# Altium schematic symbol library IC_Peripheral.SchLib: 24 symbols
Pins are listed as number, name and electrical type; pins without a type are passive.

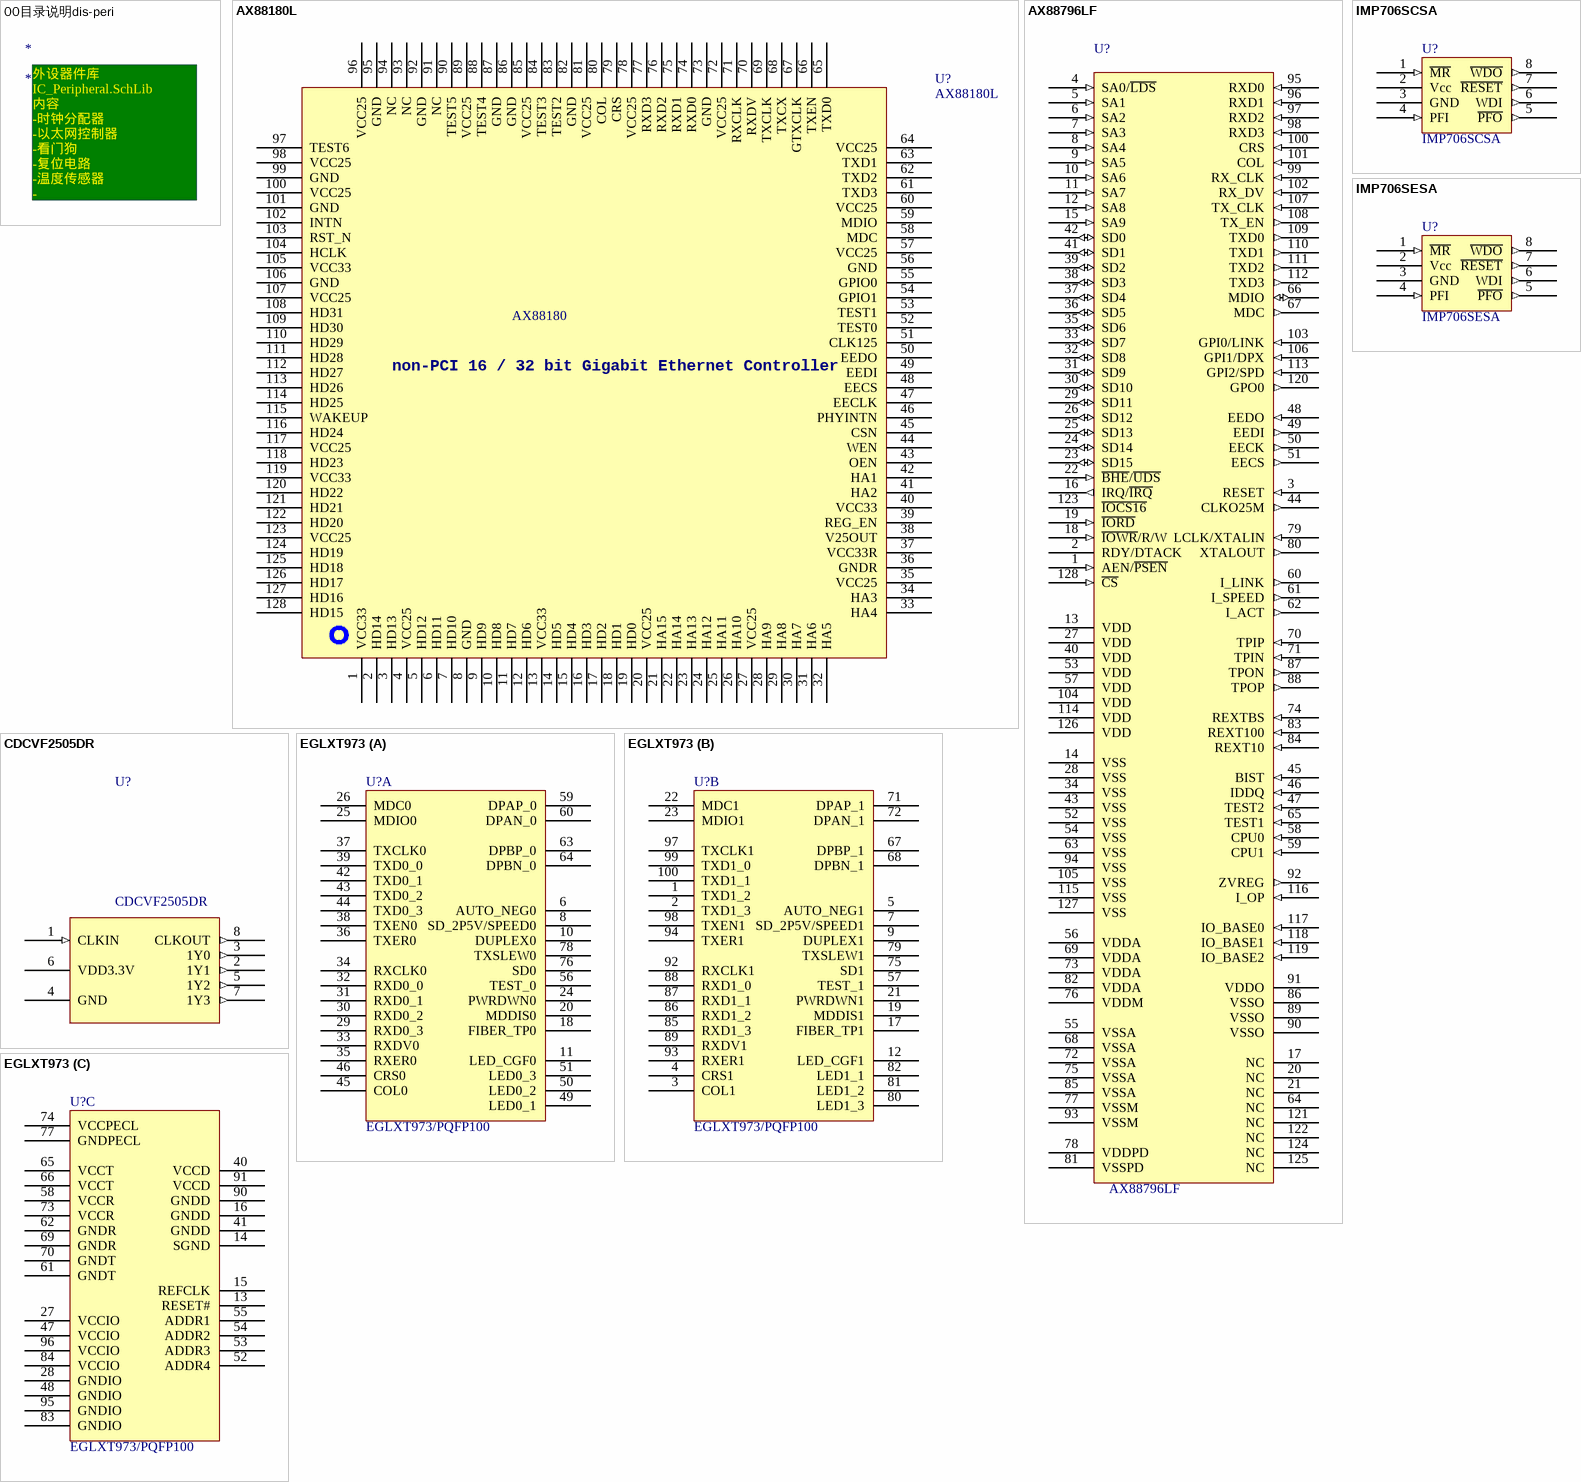
[diagram p0: symbols 00目录说明dis-peri to IMP706SESA]

## 00目录说明dis-peri
designator *
text: 外设器件库 IC_Peripheral.SchLib / 内容 / -时钟分配器 / -以太网控制器 / -看门狗 / -复位电路 / -温度传感器 / - /

## AX88180L
designator U?
High-Performance Non-PCI    32-bit 10/100/1000M Gigabit Ethernet Controller; Manufacturer: ASIX; Name: 千兆以太网控制器仅MAC部分; 物料型号说明: 千兆MAC; Price_Date: 2011-07; Price: 35; 物料替代型号: n/a; Ordering NO.: AX88180L
footprint LQFP128/0.4_14*14 (Shrink QFP, 128-Leads, Body 14x14mm, Pitch 0.4mm, IPC High Density)
pins: 1 VCC33, 2 HD14, 3 HD13, 4 VCC25, 5 HD12, 6 HD11, 7 HD10, 8 GND, 9 HD9, 10 HD8, 11 HD7, 12 HD6, 13 VCC33, 14 HD5, 15 HD4, 16 HD3, 17 HD2, 18 HD1, 19 HD0, 20 VCC25, 21 HA15, 22 HA14, 23 HA13, 24 HA12, 25 HA11, 26 HA10, 27 VCC25, 28 HA9, 29 HA8, 30 HA7, 31 HA6, 32 HA5, 33 HA4, 34 HA3, 35 VCC25, 36 GNDR, 37 VCC33R, 38 V25OUT, 39 REG_EN, 40 VCC33, 41 HA2, 42 HA1, 43 OEN, 44 WEN, 45 CSN, 46 PHYINTN, 47 EECLK, 48 EECS, 49 EEDI, 50 EEDO, 51 CLK125, 52 TEST0, 53 TEST1, 54 GPIO1, 55 GPIO0, 56 GND, 57 VCC25, 58 MDC, 59 MDIO, 60 VCC25, 61 TXD3, 62 TXD2, 63 TXD1, 64 VCC25, 65 TXD0, 66 TXEN, 67 GTXCLK, 68 TXCX, 69 TXCLK, 70 RXDV, 71 RXCLK, 72 VCC25, 73 GND, 74 RXD0, 75 RXD1, 76 RXD2, 77 RXD3, 78 VCC25, 79 CRS, 80 COL, 81 VCC25, 82 GND, 83 TEST2, 84 TEST3, 85 VCC25, 86 GND, 87 GND, 88 TEST4, 89 VCC25, 90 TEST5, 91 NC, 92 GND, 93 NC, 94 NC, 95 GND, 96 VCC25, 97 TEST6, 98 VCC25, 99 GND, 100 VCC25, 101 GND, 102 INTN, 103 RST_N, 104 HCLK, 105 VCC33, 106 GND, 107 VCC25, 108 HD31, 109 HD30, 110 HD29, 111 HD28, 112 HD27, 113 HD26, 114 HD25, 115 WAKEUP, 116 HD24, 117 VCC25, 118 HD23, 119 VCC33, 120 HD22, 121 HD21, 122 HD20, 123 VCC25, 124 HD19, 125 HD18, 126 HD17, 127 HD16, 128 HD15
text: AX88180; non-PCI 16 / 32 bit / Gigabit Ethernet Controller

## AX88796LF
designator U?
3-in-1 Local BUus Fast Ethernet Controller with Embedded SRAM; Manufacturer: ASIX; Name: 以太网控制器; Ordering NO.: AX88796LF
footprint LQFP128/0.5_20*14
pins: 1 AEN/~{PSEN} (in), 2 RDY/DTACK, 3 RESET (in), 4 SA0/~{LDS} (in), 5 SA1 (in), 6 SA2 (in), 7 SA3 (in), 8 SA4 (in), 9 SA5 (in), 10 SA6 (in), 11 SA7 (in), 12 SA8 (in), 13 VDD (power), 14 VSS (power), 15 SA9 (in), 16 IRQ/~{IRQ} (out), 17 NC, 18 ~{IOWR}/R/W (in), 19 ~{IORD} (in), 20 NC, 21 NC, 22 ~{BHE}/~{UDS} (in), 23 SD15 (io), 24 SD14 (io), 25 SD13 (io), 26 SD12 (io), 27 VDD (power), 28 VSS (power), 29 SD11 (io), 30 SD10 (io), 31 SD9 (io), 32 SD8 (io), 33 SD7 (io), 34 VSS (power), 35 SD6 (io), 36 SD5 (io), 37 SD4 (io), 38 SD3 (io), 39 SD2 (io), 40 VDD (power), 41 SD1 (io), 42 SD0 (io), 43 VSS (power), 44 CLKO25M (out), 45 BIST (in), 46 IDDQ (in), 47 TEST2 (in), 48 EEDO (in), 49 EEDI (out), 50 EECK (out), 51 EECS (out), 52 VSS (power), 53 VDD (power), 54 VSS (power), 55 VSSA (power), 56 VDDA (power), 57 VDD (power), 58 CPU0 (in), 59 CPU1 (in), 60 I_LINK (out), 61 I_SPEED (out), 62 I_ACT (out), 63 VSS (power), 64 NC, 65 TEST1 (in), 66 MDIO (io), 67 MDC (out), 68 VSSA (power), 69 VDDA (power), 70 TPIP (in), 71 TPIN (in), 72 VSSA (power), 73 VDDA (power), 74 REXTBS (in), 75 VSSA (power), 76 VDDM (power), 77 VSSM (power), 78 VDDPD (power), 79 LCLK/XTALIN (in), 80 XTALOUT (out), 81 VSSPD (power), 82 VDDA (power), 83 REXT100 (in), 84 REXT10 (in), 85 VSSA (power), 86 VSSO (power), 87 TPON (out), 88 TPOP (out), 89 VSSO (power), 90 VSSO (power), 91 VDDO (power), 92 ZVREG (out), 93 VSSM (power), 94 VSS (power), 95 RXD0 (in), 96 RXD1 (in), 97 RXD2 (in), 98 RXD3 (in), 99 RX_CLK (in), 100 CRS (in), 101 COL (in), 102 RX_DV (in), 103 GPI0/LINK (in), 104 VDD (power), 105 VSS (power), 106 GPI1/DPX (in), 107 TX_CLK (in), 108 TX_EN (out), 109 TXD0 (out), 110 TXD1 (out), 111 TXD2 (out), 112 TXD3 (out), 113 GPI2/SPD (in), 114 VDD (power), 115 VSS (power), 116 I_OP (in), 117 IO_BASE0 (in), 118 IO_BASE1 (in), 119 IO_BASE2 (in), 120 GPO0 (out), 121 NC, 122 NC, 123 ~{IOCS16}, 124 NC, 125 NC, 126 VDD (power), 127 VSS (power), 128 ~{CS} (in)

## CDCVF2505DR
designator U?
3.3V CLODK PHASE-LOCK LOOP CLOCK DRIVER; Manufacturer: TI; Name: 锁相环时钟驱动器; 物料型号说明: SO-8封装; Price: 25; 物料替代型号: n/a; Ordering NO.: CDCVF2505DR
footprint SO8/1.27_4.9*3.9 (SOIC, 8-Leads, Body 4.9x3.9mm, Pitch 1.27mm,)
pins: 1 CLKIN (in), 2 1Y1 (out), 3 1Y0 (out), 4 GND (power), 5 1Y2 (out), 6 VDD3.3V (power), 7 1Y3 (out), 8 CLKOUT (out)

## EGLXT973
designator U?, comment EGLXT973/PQFP100
双100TX/FX PHY; Manufacturer: Cortina systems; Name: 双100TX/FX以太网PHY; 物料替代型号: EGLXT973QE.A3V工业温度; Ordering NO.: EGLXT973QEA3V; 物料型号说明: QFP100封装商业温度; Price: 70.01
footprint PQFP100/0.65 (Footprint not found)
part A pins: 6 AUTO_NEG0, 8 SD_2P5V/SPEED0, 10 DUPLEX0, 11 LED_CGF0, 18 FIBER_TP0, 20 MDDIS0, 24 PWRDWN0, 25 MDIO0, 26 MDC0, 29 RXD0_3, 30 RXD0_2, 31 RXD0_1, 32 RXD0_0, 33 RXDV0, 34 RXCLK0, 35 RXER0, 36 TXER0, 37 TXCLK0, 38 TXEN0, 39 TXD0_0, 42 TXD0_1, 43 TXD0_2, 44 TXD0_3, 45 COL0, 46 CRS0, 49 LED0_1, 50 LED0_2, 51 LED0_3, 56 TEST_0, 59 DPAP_0, 60 DPAN_0, 63 DPBP_0, 64 DPBN_0, 76 SD0, 78 TXSLEW0
part B pins: 1 TXD1_2, 2 TXD1_3, 3 COL1, 4 CRS1, 5 AUTO_NEG1, 7 SD_2P5V/SPEED1, 9 DUPLEX1, 12 LED_CGF1, 17 FIBER_TP1, 19 MDDIS1, 21 PWRDWN1, 22 MDC1, 23 MDIO1, 57 TEST_1, 67 DPBP_1, 68 DPBN_1, 71 DPAP_1, 72 DPAN_1, 75 SD1, 79 TXSLEW1, 80 LED1_3, 81 LED1_2, 82 LED1_1, 85 RXD1_3, 86 RXD1_2, 87 RXD1_1, 88 RXD1_0, 89 RXDV1, 92 RXCLK1, 93 RXER1, 94 TXER1, 97 TXCLK1, 98 TXEN1, 99 TXD1_0, 100 TXD1_1
part C pins: 13 RESET#, 14 SGND (power), 15 REFCLK, 16 GNDD (power), 27 VCCIO (power), 28 GNDIO (power), 40 VCCD (power), 41 GNDD (power), 47 VCCIO (power), 48 GNDIO (power), 52 ADDR4, 53 ADDR3, 54 ADDR2, 55 ADDR1, 58 VCCR (power), 61 GNDT (power), 62 GNDR (power), 65 VCCT (power), 66 VCCT (power), 69 GNDR (power), 70 GNDT (power), 73 VCCR (power), 74 VCCPECL (power), 77 GNDPECL (power), 83 GNDIO (power), 84 VCCIO (power), 90 GNDD (power), 91 VCCD (power), 95 GNDIO (power), 96 VCCIO (power)

## IMP706SCSA
designator U?
POWER MANAGEMENT, Power supply monitor: 2.93V, Debounced manual reset input, 200ms reset(Active LOW) time delay, Guaranteed RESET assertion to VCC = 1.1V,  SO packages; Manufacturer: IMP; Name: 电源管理芯片; Ordering NO.: IMP706SCSA
footprint SO8/1.27_4.9*3.9 (SOIC, 8-Leads, Body 4.9x3.9mm, Pitch 1.27mm,)
pins: 1 ~{MR} (in), 2 Vcc (power), 3 GND (power), 4 PFI (in), 5 ~{PFO} (out), 6 WDI (out), 7 ~{RESET} (out), 8 ~{WDO} (out)

## IMP706SESA
designator U?
POWER MANAGEMENT, Power supply monitor: 2.93V, Debounced manual reset input, 200ms reset(Active LOW) time delay, Guaranteed RESET assertion to VCC = 1.1V,  SO packages; Manufacturer: IMP; Name: 电源管理芯片; Ordering NO.: IMP706SESA
footprint SO8/1.27_4.9*3.9 (SOIC, 8-Leads, Body 4.9x3.9mm, Pitch 1.27mm,)
pins: 1 ~{MR} (in), 2 Vcc (power), 3 GND (power), 4 PFI (in), 5 ~{PFO} (out), 6 WDI (out), 7 ~{RESET} (out), 8 ~{WDO} (out)

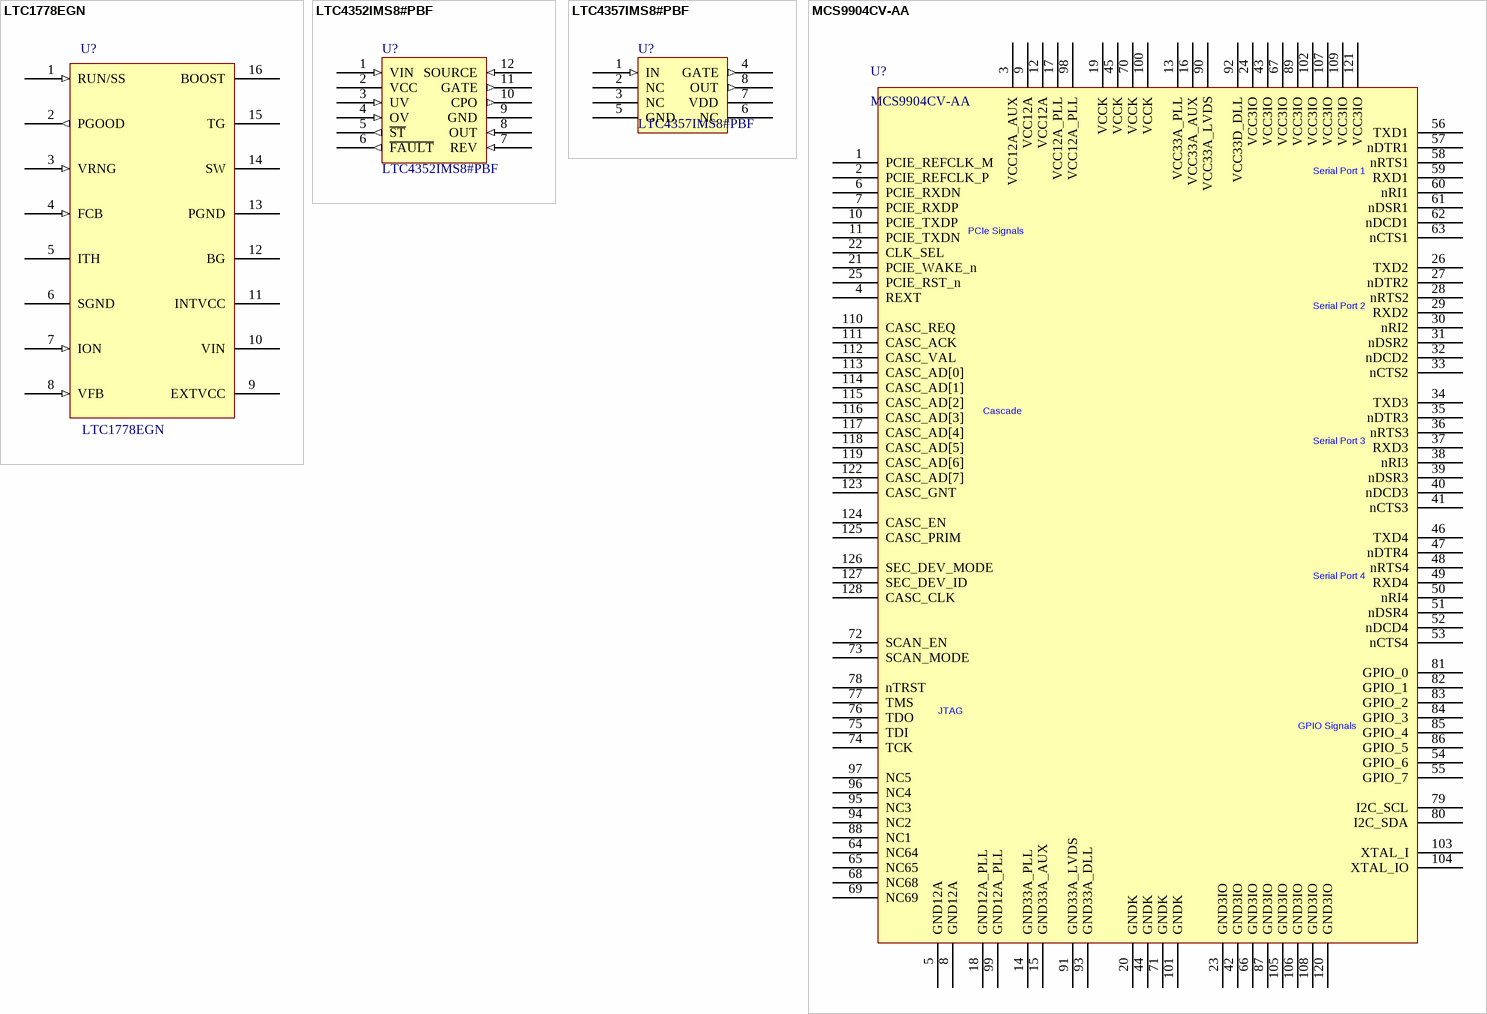
[diagram p1: symbols LTC1778EGN to MCS9904CV-AA]

## LTC1778EGN
designator U?
Wide Operating Range,No R(SENSE),Step-Down Controller; Manufacturer: Linear; Name: 电源管理芯片; Ordering NO.: LTC1778EGN
footprint SSOP16/0.635_4.9*3.9 (SSOP; 16 Leads; Body Width 3.9 mm; Pitch 0.635 mm)
pins: 1 RUN/SS (in), 2 PGOOD (out), 3 VRNG (in), 4 FCB (in), 5 ITH, 6 SGND (power), 7 ION (in), 8 VFB (in), 9 EXTVCC (power), 10 VIN (power), 11 INTVCC (power), 12 BG, 13 PGND (power), 14 SW, 15 TG, 16 BOOST

## LTC4352IMS8#PBF
designator U?
Low Voltage Ideal Diode Controller with Monitoring; Manufacturer: Linear; Name: 电源管理芯片; Ordering NO.: LTC4352IMS8#PBF
footprint MSOP12/0.65_4*3 (MSOP,8 PIN,Pitch 0.65mm,Body 4mmX3mm)
pins: 1 VIN (in), 2 VCC (power), 3 UV (in), 4 OV (in), 5 ~{ST} (out), 6 ~{FAULT} (out), 7 REV (in), 8 OUT (in), 9 GND (power), 10 CPO (out), 11 GATE (out), 12 SOURCE (in)

## LTC4357IMS8#PBF
designator U?
Positive High Voltage Ideal Diode Controller; Manufacturer: Linear; Name: 电源管理芯片; Ordering NO.: LTC4357IMS8#PBF
footprint MSOP8/0.65_3*3 (MSOP,8 PIN,Pitch 0.65mm,Body 3mmX3mm)
pins: 1 IN (in), 2 NC, 3 NC, 4 GATE (out), 5 GND (power), 6 NC, 7 VDD (power), 8 OUT (out)

## MCS9904CV-AA
designator U?
PCI_E 4UART; Price: 20
footprint LQFP128/0.4_14*14 (Shrink QFP, 128-Leads, Body 14x14mm, Pitch 0.4mm, IPC High Density)
pins: 1 PCIE_REFCLK_M, 2 PCIE_REFCLK_P, 3 VCC12A_AUX (power), 4 REXT, 5 GND12A (power), 6 PCIE_RXDN, 7 PCIE_RXDP, 8 GND12A (power), 9 VCC12A (power), 10 PCIE_TXDP, 11 PCIE_TXDN, 12 VCC12A (power), 13 VCC33A_PLL (power), 14 GND33A_PLL (power), 15 GND33A_AUX (power), 16 VCC33A_AUX (power), 17 VCC12A_PLL (power), 18 GND12A_PLL (power), 19 VCCK (power), 20 GNDK (power), 21 PCIE_WAKE_n, 22 CLK_SEL, 23 GND3IO (power), 24 VCC3IO (power), 25 PCIE_RST_n, 26 TXD2, 27 nDTR2, 28 nRTS2, 29 RXD2, 30 nRI2, 31 nDSR2, 32 nDCD2, 33 nCTS2, 34 TXD3, 35 nDTR3, 36 nRTS3, 37 RXD3, 38 nRI3, 39 nDSR3, 40 nDCD3, 41 nCTS3, 42 GND3IO (power), 43 VCC3IO (power), 44 GNDK (power), 45 VCCK (power), 46 TXD4, 47 nDTR4, 48 nRTS4, 49 RXD4, 50 nRI4, 51 nDSR4, 52 nDCD4, 53 nCTS4, 54 GPIO_6, 55 GPIO_7, 56 TXD1, 57 nDTR1, 58 nRTS1, 59 RXD1, 60 nRI1, 61 nDSR1, 62 nDCD1, 63 nCTS1, 64 NC64, 65 NC65, 66 GND3IO (power), 67 VCC3IO (power), 68 NC68, 69 NC69, 70 VCCK (power), 71 GNDK (power), 72 SCAN_EN, 73 SCAN_MODE, 74 TCK, 75 TDI, 76 TDO, 77 TMS, 78 nTRST, 79 I2C_SCL, 80 I2C_SDA, 81 GPIO_0, 82 GPIO_1, 83 GPIO_2, 84 GPIO_3, 85 GPIO_4, 86 GPIO_5, 87 GND3IO (power), 88 NC1, 89 VCC3IO (power), 90 VCC33A_LVDS (power), 91 GND33A_LVDS (power), 92 VCC33D_DLL (power), 93 GND33A_DLL (power), 94 NC2, 95 NC3, 96 NC4, 97 NC5, 98 VCC12A_PLL (power), 99 GND12A_PLL (power), 100 VCCK (power), 101 GNDK (power), 102 VCC3IO (power), 103 XTAL_I, 104 XTAL_IO, 105 GND3IO (power), 106 GND3IO (power), 107 VCC3IO (power), 108 GND3IO (power), 109 VCC3IO (power), 110 CASC_REQ, 111 CASC_ACK, 112 CASC_VAL, 113 CASC_AD[0], 114 CASC_AD[1], 115 CASC_AD[2], 116 CASC_AD[3], 117 CASC_AD[4], 118 CASC_AD[5], 119 CASC_AD[6], 120 GND3IO (power), 121 VCC3IO (power), 122 CASC_AD[7], 123 CASC_GNT, 124 CASC_EN, 125 CASC_PRIM, 126 SEC_DEV_MODE, 127 SEC_DEV_ID, 128 CASC_CLK
text: Serial Port 1; PCIe Signals; Serial Port 2; Cascade; Serial Port 3; Serial Port 4; JTAG; GPIO Signals

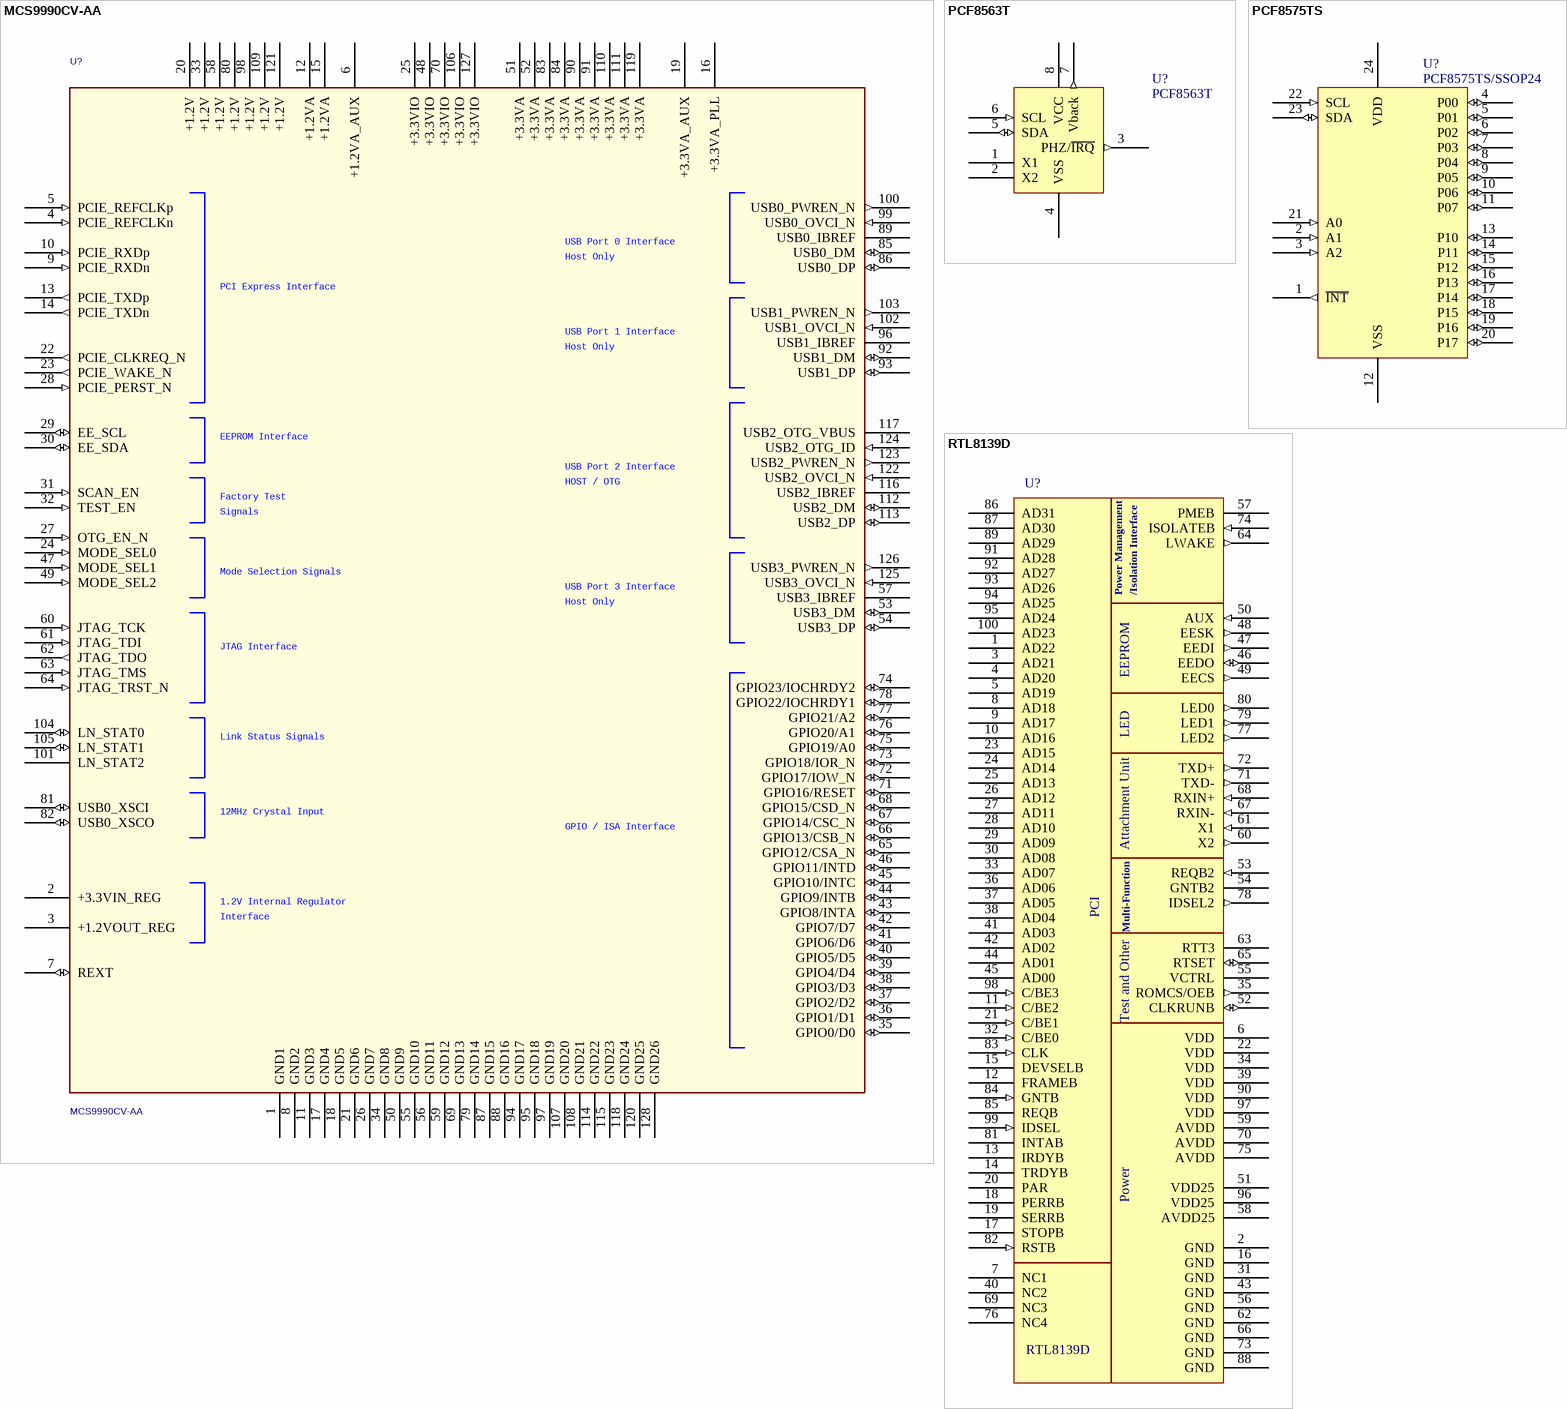
[diagram p2: symbols MCS9990CV-AA to RTL8139D]

## MCS9990CV-AA
designator U?
PCIe至ISA桥,USB2.0主控器; Manufacturer: ASIX; Name: USB2.0 Host x4; 物料替代型号: MCS9990IV-AA工业温度; 物料型号说明: 商业温度; Price: 25; Ordering NO.: MCS9990CV-AA
footprint LQFP128/0.4_14*14 (Shrink QFP, 128-Leads, Body 14x14mm, Pitch 0.4mm, IPC High Density)
pins: 1 GND1 (power), 2 +3.3VIN_REG (power), 3 +1.2VOUT_REG (power), 4 PCIE_REFCLKn (in), 5 PCIE_REFCLKp (in), 6 +1.2VA_AUX (power), 7 REXT (io), 8 GND2 (power), 9 PCIE_RXDn (in), 10 PCIE_RXDp (in), 11 GND3 (power), 12 +1.2VA (power), 13 PCIE_TXDp (out), 14 PCIE_TXDn (out), 15 +1.2VA (power), 16 +3.3VA_PLL (power), 17 GND4 (power), 18 GND5 (power), 19 +3.3VA_AUX (power), 20 +1.2V (power), 21 GND6 (power), 22 PCIE_CLKREQ_N (out), 23 PCIE_WAKE_N (out), 24 MODE_SEL0 (in), 25 +3.3VIO (power), 26 GND7 (power), 27 OTG_EN_N (in), 28 PCIE_PERST_N (in), 29 EE_SCL (io), 30 EE_SDA (io), 31 SCAN_EN (in), 32 TEST_EN (in), 33 +1.2V (power), 34 GND8 (power), 35 GPIO0/D0 (io), 36 GPIO1/D1 (io), 37 GPIO2/D2 (io), 38 GPIO3/D3 (io), 39 GPIO4/D4 (io), 40 GPIO5/D5 (io), 41 GPIO6/D6 (io), 42 GPIO7/D7 (io), 43 GPIO8/INTA (io), 44 GPIO9/INTB (io), 45 GPIO10/INTC (io), 46 GPIO11/INTD (io), 47 MODE_SEL1 (in), 48 +3.3VIO (power), 49 MODE_SEL2 (in), 50 GND9 (power), 51 +3.3VA (power), 52 +3.3VA (power), 53 USB3_DM (io), 54 USB3_DP (io), 55 GND10 (power), 56 GND11 (power), 57 USB3_IBREF (power), 58 +1.2V (power), 59 GND12 (power), 60 JTAG_TCK (in), 61 JTAG_TDI (in), 62 JTAG_TDO (out), 63 JTAG_TMS (in), 64 JTAG_TRST_N (in), 65 GPIO12/CSA_N (io), 66 GPIO13/CSB_N (io), 67 GPIO14/CSC_N (io), 68 GPIO15/CSD_N (io), 69 GND13 (power), 70 +3.3VIO (power), 71 GPIO16/RESET (io), 72 GPIO17/IOW_N (io), 73 GPIO18/IOR_N (io), 74 GPIO23/IOCHRDY2 (io), 75 GPIO19/A0 (io), 76 GPIO20/A1 (io), 77 GPIO21/A2 (io), 78 GPIO22/IOCHRDY1 (io), 79 GND14 (power), 80 +1.2V (power), 81 USB0_XSCI (io), 82 USB0_XSCO (io), 83 +3.3VA (power), 84 +3.3VA (power), 85 USB0_DM (io), 86 USB0_DP (io), 87 GND15 (power), 88 GND16 (power), 89 USB0_IBREF (power), 90 +3.3VA (power), 91 +3.3VA (power), 92 USB1_DM (io), 93 USB1_DP (io), 94 GND17 (power), 95 GND18 (power), 96 USB1_IBREF (power), 97 GND19 (power), 98 +1.2V (power), 99 USB0_OVCI_N (in), 100 USB0_PWREN_N (out), 101 LN_STAT2 (hiz), 102 USB1_OVCI_N (in), 103 USB1_PWREN_N (out), 104 LN_STAT0 (io), 105 LN_STAT1 (io), 106 +3.3VIO (power), 107 GND20 (power), 108 GND21 (power), 109 +1.2V (power), 110 +3.3VA (power), 111 +3.3VA (power), 112 USB2_DM (io), 113 USB2_DP (io), 114 GND22 (power), 115 GND23 (power), 116 USB2_IBREF (power), 117 USB2_OTG_VBUS (power), 118 GND24 (power), 119 +3.3VA (power), 120 GND25 (power), 121 +1.2V (power), 122 USB2_OVCI_N (in), 123 USB2_PWREN_N (out), 124 USB2_OTG_ID (in), 125 USB3_OVCI_N (in), 126 USB3_PWREN_N (out), 127 +3.3VIO (power), 128 GND26 (power)
text: USB Port 0 Interface; Host Only; PCI Express Interface; USB Port 1 Interface; EEPROM Interface; USB Port 2 Interface; HOST / OTG; Factory Test; Signals; Mode Selection Signals; USB Port 3 Interface; JTAG Interface; Link Status Signals; 12MHz Crystal Input; GPIO / ISA Interface; 1.2V Internal Regulator; Interface

## PCF8563T
designator U?
Real-time clock/calendar; Manufacturer: Philips; Name: 实时时钟; Ordering NO.: PCF8563T
footprint SO8/1.27_4.9*3.9 (SOIC, 8-Leads, Body 4.9x3.9mm, Pitch 1.27mm,)
pins: 1 X1, 2 X2, 3 PHZ/~{IRQ} (out), 4 VSS (power), 5 SDA (io), 6 SCL (in), 7 Vback (out), 8 VCC (power)

## PCF8575TS
designator U?, comment PCF8575TS/SSOP24
16bits IO expander with IIC interface; Manufacturer: Philips; Name: IO扩展芯片; Ordering NO.: PCF8575TS
footprint SSOP24/0.65_8.2*5.3 (Footprint not found)
pins: 1 ~{INT} (out), 2 A1 (in), 3 A2 (in), 4 P00 (io), 5 P01 (io), 6 P02 (io), 7 P03 (io), 8 P04 (io), 9 P05 (io), 10 P06 (io), 11 P07 (io), 12 VSS (power), 13 P10 (io), 14 P11 (io), 15 P12 (io), 16 P13 (io), 17 P14 (io), 18 P15 (io), 19 P16 (io), 20 P17 (io), 21 A0 (in), 22 SCL (in), 23 SDA (io), 24 VDD (power)

## RTL8139D
designator U?
Single-chip Multi-function 10/100Mbps Ethernet Controller with Power Management; Manufacturer: Realtek; Name: 以太网控制器; Ordering NO.: RTL8139D
footprint QFP100/0.65_14*20 (QFP, 100-Leads, Body 25.1x19.1mm (max), Pitch 0.65mm, IPC Medium Density)
pins: 1 AD22 (hiz), 2 GND (power), 3 AD21 (hiz), 4 AD20 (hiz), 5 AD19 (hiz), 6 VDD (power), 7 NC1, 8 AD18 (hiz), 9 AD17 (hiz), 10 AD16 (hiz), 11 C/BE2 (in), 12 FRAMEB (hiz), 13 IRDYB (hiz), 14 TRDYB (hiz), 15 DEVSELB (hiz), 16 GND (power), 17 STOPB (hiz), 18 PERRB (hiz), 19 SERRB (oc), 20 PAR (hiz), 21 C/BE1 (in), 22 VDD (power), 23 AD15 (hiz), 24 AD14, 25 AD13, 26 AD12, 27 AD11 (hiz), 28 AD10 (hiz), 29 AD09 (hiz), 30 AD08 (hiz), 31 GND (power), 32 C/BE0 (in), 33 AD07 (hiz), 34 VDD (power), 35 ROMCS/OEB (out), 36 AD06 (hiz), 37 AD05 (hiz), 38 AD04 (hiz), 39 VDD (power), 40 NC2, 41 AD03 (hiz), 42 AD02 (hiz), 43 GND (power), 44 AD01 (hiz), 45 AD00 (hiz), 46 EEDO (io), 47 EEDI (out), 48 EESK (out), 49 EECS (out), 50 AUX (in), 51 VDD25 (power), 52 CLKRUNB (io), 53 REQB2 (in), 54 GNTB2 (hiz), 55 VCTRL, 56 GND (power), 57 PMEB (oc), 58 AVDD25 (power), 59 AVDD (power), 60 X2 (out), 61 X1 (in), 62 GND (power), 63 RTT3, 64 LWAKE (out), 65 RTSET (io), 66 GND (power), 67 RXIN- (in), 68 RXIN+ (in), 69 NC3, 70 AVDD (power), 71 TXD- (out), 72 TXD+ (out), 73 GND (power), 74 ISOLATEB (in), 75 AVDD (power), 76 NC4, 77 LED2 (out), 78 IDSEL2 (out), 79 LED1 (out), 80 LED0 (out), 81 INTAB (oc), 82 RSTB (in), 83 CLK (in), 84 GNTB (in), 85 REQB (hiz), 86 AD31, 87 AD30, 88 GND (power), 89 AD29, 90 VDD (power), 91 AD28, 92 AD27, 93 AD26, 94 AD25, 95 AD24, 96 VDD25 (power), 97 VDD (power), 98 C/BE3 (in), 99 IDSEL (in), 100 AD23
text: Power Management; /Isolation Interface; EEPROM; LED; Attachment Unit; PCI; Multi-Function; Test and Other; Power

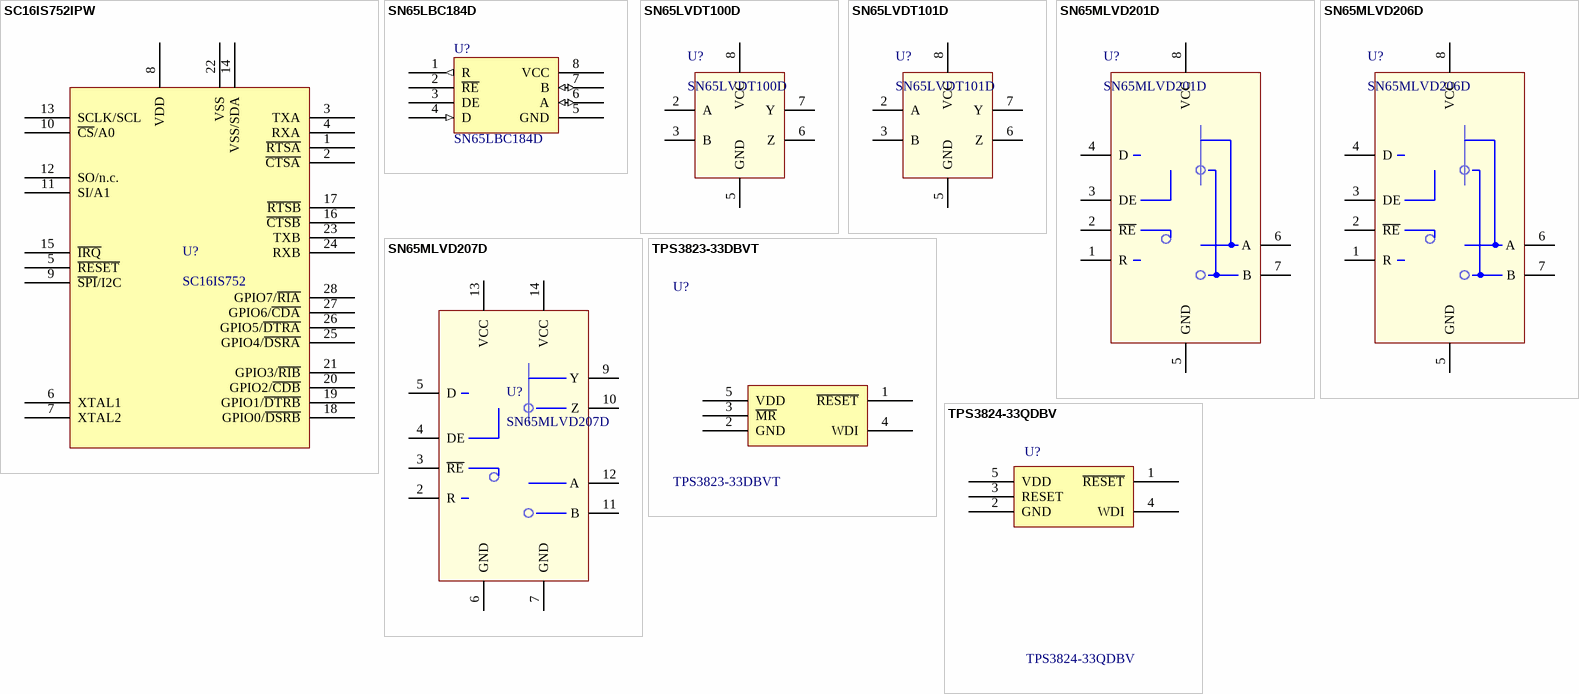
[diagram p3: symbols SC16IS752IPW to TPS3824-33QDBV]

## SC16IS752IPW
designator U?, comment SC16IS752
Dual UART with I2C-bus/SPI interface, 64 bytes of transmit  and receive FIFOs, IrDA SIR built-in support; Manufacturer: NXP; Name: 双通道UART; Ordering NO.: SC16IS752IPW
footprint TSSOP28/0.65_9.7*4.4 (Footprint not found)
pins: 1 ~{RTSA}, 2 ~{CTSA}, 3 TXA, 4 RXA, 5 ~{RESET}, 6 XTAL1, 7 XTAL2, 8 VDD, 9 ~{SPI}/I2C, 10 ~{CS}/A0, 11 SI/A1, 12 SO/n.c., 13 SCLK/SCL, 14 VSS/SDA, 15 ~{IRQ}, 16 ~{CTSB}, 17 ~{RTSB}, 18 GPIO0/~{DSRB}, 19 GPIO1/~{DTRB}, 20 GPIO2/~{CDB}, 21 GPIO3/~{RIB}, 22 VSS, 23 TXB, 24 RXB, 25 GPIO4/~{DSRA}, 26 GPIO5/~{DTRA}, 27 GPIO6/~{CDA}, 28 GPIO7/~{RIA}

## SN65LBC184D
designator U?
Differential Transceiver with Transient Voltage Suppression; Manufacturer: TI; Name: RS485收发器; Ordering NO.: SN65LBC184D
footprint SO8/1.27_4.9*3.9 (SOIC, 8-Leads, Body 4.9x3.9mm, Pitch 1.27mm,)
pins: 1 R (out), 2 ~{RE} (power), 3 DE, 4 D (in), 5 GND (power), 6 A (io), 7 B (io), 8 VCC (power)

## SN65LVDT100D
designator U?
Differential Translator/Repeater; Manufacturer: TI; Name: 中继器; Ordering NO.: SN65LVDT100D
footprint SO8/1.27_4.9*3.9 (SOIC, 8-Leads, Body 4.9x3.9mm, Pitch 1.27mm,)
pins: 2 A, 3 B, 5 GND, 6 Z, 7 Y, 8 VCC

## SN65LVDT101D
designator U?
Differential Translator/Repeater; Manufacturer: TI; Name: 中继器; Ordering NO.: SN65LVDT101D
footprint SO8/1.27_4.9*3.9 (SOIC, 8-Leads, Body 4.9x3.9mm, Pitch 1.27mm,)
pins: 2 A, 3 B, 5 GND, 6 Z, 7 Y, 8 VCC

## SN65MLVD201D
designator U?
MULTIPOINT-LVDS LINE DRIVER AND RECEIVER; Manufacturer: TI; Name: M-LVDS芯片; Ordering NO.: SN65MLVD201D
footprint SO8/1.27_4.9*3.9 (SOIC, 8-Leads, Body 4.9x3.9mm, Pitch 1.27mm,)
pins: 1 R, 2 ~{RE}, 3 DE, 4 D, 5 GND, 6 A, 7 B, 8 VCC

## SN65MLVD206D
designator U?
MULTIPOINT-LVDS LINE DRIVER AND RECEIVER; Manufacturer: TI; Name: M-LVDS芯片; Ordering NO.: SN65MLVD206D
footprint SO8/1.27_4.9*3.9 (SOIC, 8-Leads, Body 4.9x3.9mm, Pitch 1.27mm,)
pins: 1 R, 2 ~{RE}, 3 DE, 4 D, 5 GND, 6 A, 7 B, 8 VCC

## SN65MLVD207D
designator U?
MULTIPOINT-LVDS LINE DRIVER AND RECEIVER; Manufacturer: TI; Name: M-LVDS芯片; Ordering NO.: SN65MLVD207D
footprint SO14/1.27_8.65*3.9 (SOIC, 14-Leads, Body 8.7x3.9mm, Pitch 1.27mm, IPC Medium Density)
pins: 2 R, 3 ~{RE}, 4 DE, 5 D, 6 GND, 7 GND, 9 Y, 10 Z, 11 B, 12 A, 13 VCC, 14 VCC

## TPS3823-33DBVT
designator U?
Reset+看门狗, Threshold Voltage:2.93V; Manufacturer: TI; Name: 看门狗芯片; Ordering NO.: TPS3823-33DBVT
footprint SOT23-5
pins: 1 ~{RESET}, 2 GND, 3 ~{MR}, 4 WDI, 5 VDD

## TPS3824-33QDBV
designator U?
Processor Supervisory Circuits; Manufacturer: TI; Name: 看门狗芯片; Ordering NO.: TPS3824-33QDBV
footprint SOT23-5 (SOT-23/SC-74A; 5 Leads; Body 3 x 3 mm, inc. leads (LxW max))
pins: 1 ~{RESET}, 2 GND (power), 3 RESET, 4 WDI, 5 VDD (power)